# Altium schematic symbol library WiredModule.SchLib: 3 symbols
Pins are listed as number, name and electrical type; pins without a type are passive.

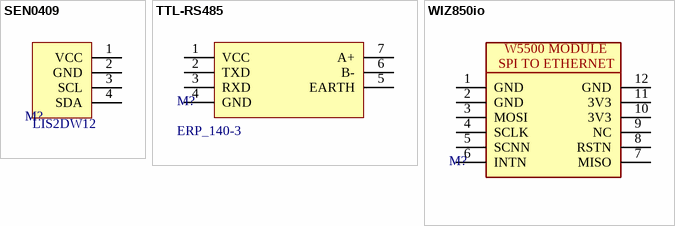
[diagram p0: symbols SEN0409 to WIZ850io]

## SEN0409
designator M?  value LIS2DW12
GRAVITY LIS2DW12 ACCELEROMETER; Manufacturer 1: DFRobot; Manufacturer Part Number 1: SEN0409
footprint SEN0409
pins: 1 VCC, 2 GND, 3 SCL, 4 SDA

## TTL-RS485
designator M?, comment ERP_140-3
TTL-RS485
footprint TTL-RS485
pins: 1 VCC, 2 TXD, 3 RXD, 4 GND, 5 EARTH, 6 B-, 7 A+

## WIZ850io
designator M?
W5500 Module 12 PIN Through Hole
footprint WIZ850io
pins: 1 GND, 2 GND, 3 MOSI, 4 SCLK, 5 SCNN, 6 INTN, 7 MISO, 8 RSTN, 9 NC, 10 3V3, 11 3V3, 12 GND
text: W5500 MODULE; SPI TO ETHERNET